# Altium footprint library IC_SOP.PcbLib: 36 footprints (part 1 of 4)
Each footprint in its own frame and in the unit in brackets; x right, y up, seen from the top. Pads: shape width x height; smd on the part's side, far side on the other; paste and mask are expansions set on the pad; w line width, h text height; cw(c..) or ccw(c..) is an arc to the next point about the centre after c.
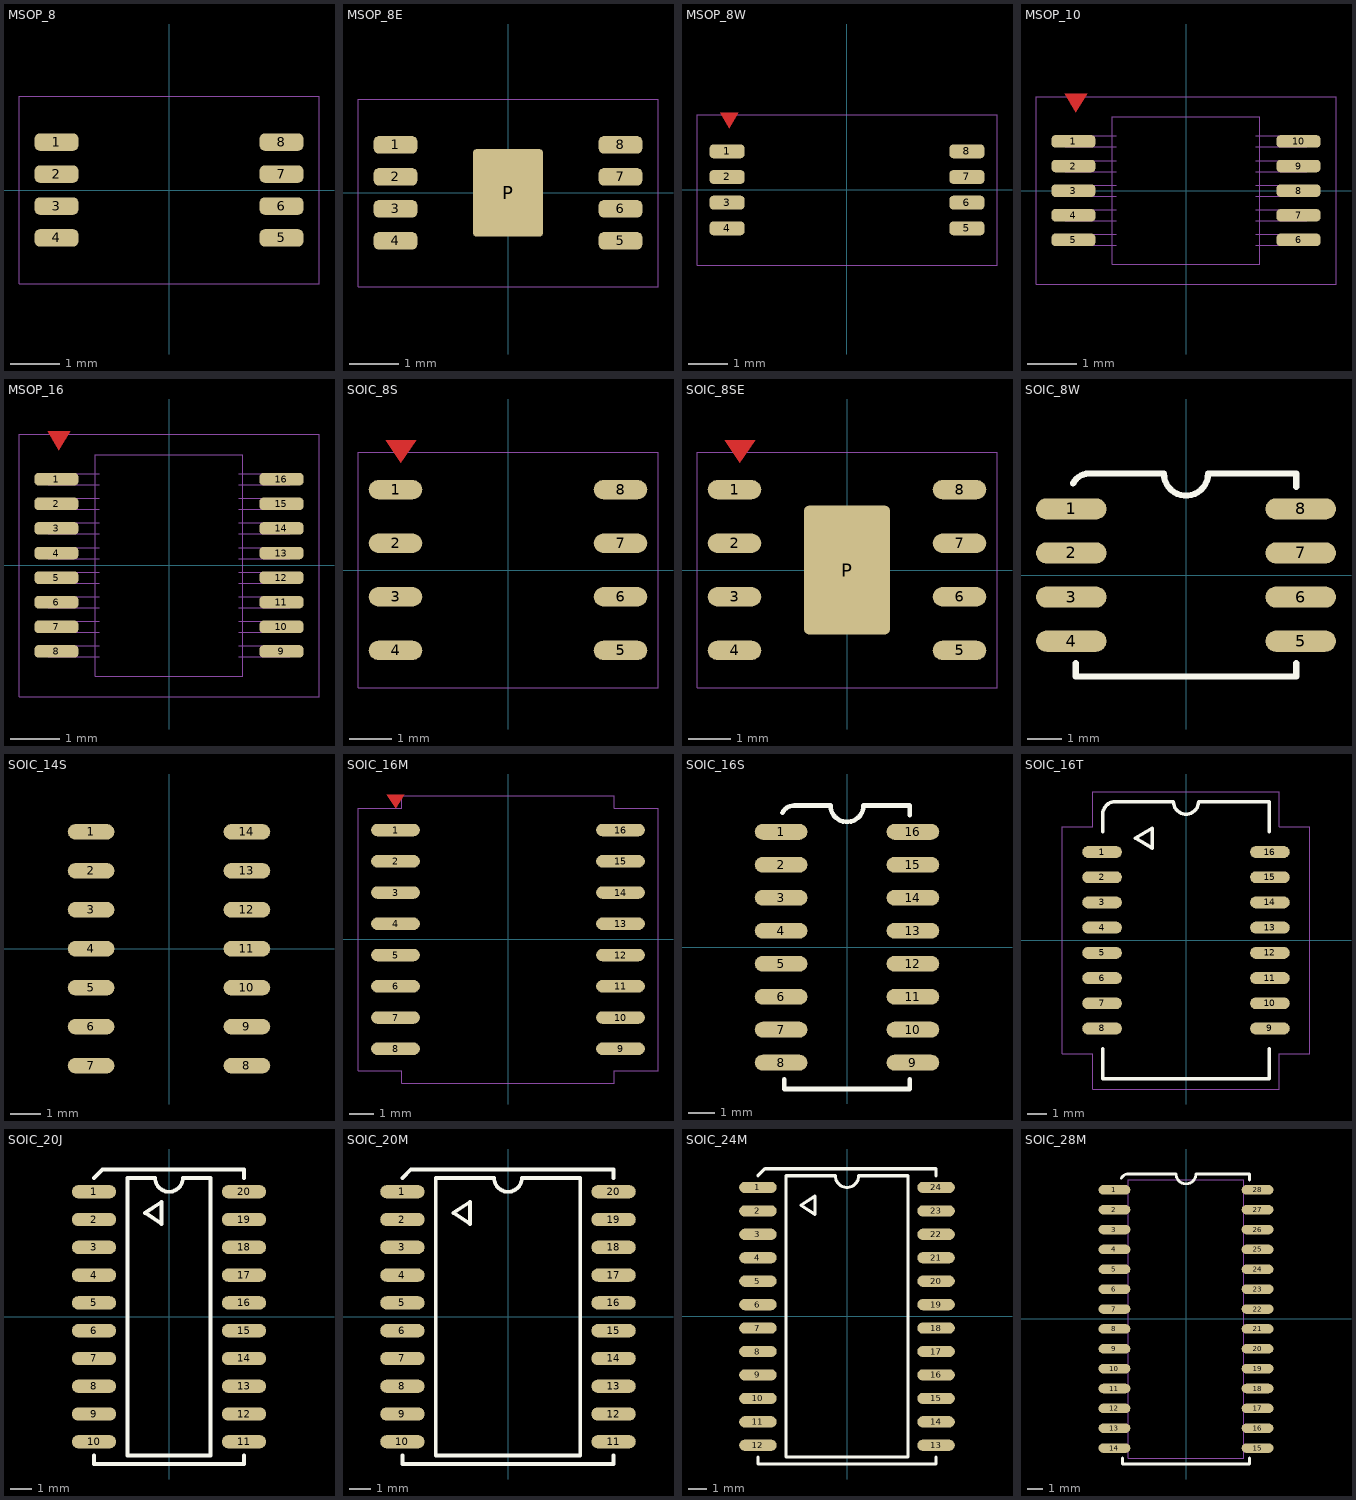
[diagram p0: the footprints below, top view; thin cyan lines are the x and y axes]

## MSOP_8 [mil]
pads (8):
  rrect60% 35x14 smd mask+2: 1(-90,38.39) 2(-90,12.8) 3(-90,-12.8) 4(-90,-38.39) 5(90,-38.39) 6(90,-12.8) 7(90,12.8) 8(90,38.39)
Top Solder:
  region: -88,61.61 -79,76.61 -97,76.61
Top Courtyard:
  lines w1: -120,-75 120,-75 120,75 -120,75 -120,-75
3D body "MSOP-8.step": height 45.28, standoff 0, extent -96.45,-59.05 96.46,59.06

## MSOP_8E [mil]
pads (9):
  rrect60% 35x14 smd mask+2: 1(-90,38.39) 2(-90,12.8) 3(-90,-12.8) 4(-90,-38.39) 5(90,-38.39) 6(90,-12.8) 7(90,12.8) 8(90,38.39)
  rrect10% 56x70 smd mask+2: P(0,0)
Top Solder:
  region: -85,60 -70.86,81.21 -99.14,81.21
Top Courtyard:
  lines w1: -120,-75 120,-75 120,75 -120,75 -120,-75
3D body "MSOP-8.step": height 45.28, standoff 0, extent -96.45,-59.05 96.46,59.06

## MSOP_8W [mil]
pads (8):
  rrect60% 35x14 smd mask+2: 1(-119.53,38.39) 2(-119.53,12.8) 3(-119.53,-12.8) 4(-119.53,-38.39) 5(119.53,-38.39) 6(119.53,-12.8) 7(119.53,12.8) 8(119.53,38.39)
Top Layer:
  region: -117.53,61.61 -108.53,76.61 -126.53,76.61
Top Courtyard:
  lines w1: -149.53,-75 149.53,-75 149.53,75 -149.53,75 -149.53,-75
3D body "MSOP-8.step": height 45.28, standoff 0, extent -96.46,-59.06 96.46,59.06

## MSOP_10 [mil]
pads (10):
  rrect60% 35x10 smd mask+2: 1(-90.06,39.37) 2(-90.06,19.68) 3(-90.06,0) 4(-90.06,-19.68) 5(-90.06,-39.37) 6(90,-39.37) 7(90,-19.68) 8(90,0) 9(90,19.68) 10(90,39.37)
Top Layer:
  region: -88.06,62.6 -79.06,77.6 -97.06,77.6
Top Courtyard:
  lines w1: -120,-75 -120,75 120,75 120,-75 -120,-75
Top Component Outline:
  lines w1: -80.06,-43.77 -80.06,-34.97 ; -80.06,-24.08 -80.06,-15.29 ; -80.06,-4.4 -80.06,4.4 ; -80.06,15.29 -80.06,24.08 ; -80.06,34.97 -80.06,43.77 ; -74.86,-43.77 -74.86,-34.97 ; -74.86,-24.08 -74.86,-15.29 ; -74.86,-4.4 -74.86,4.4 ; -74.86,15.29 -74.86,24.08 ; -74.86,34.97 -74.86,43.77 ; -55.66,-43.77 -96.51,-43.77 -96.51,-34.97 -55.66,-34.97 ; -55.66,-24.08 -96.51,-24.08 -96.51,-15.29 -55.66,-15.29 ; -55.66,-4.4 -96.51,-4.4 -96.51,4.4 -55.66,4.4 ; -55.66,15.29 -96.51,15.29 -96.51,24.08 -55.66,24.08 ; -55.66,34.97 -96.51,34.97 -96.51,43.77 -55.66,43.77 ; 55.6,-43.77 96.46,-43.77 96.46,-34.97 55.6,-34.97 ; 55.6,-24.08 96.46,-24.08 96.46,-15.29 55.6,-15.29 ; 55.6,-4.4 96.46,-4.4 96.46,4.4 55.6,4.4 ; 55.6,15.29 96.46,15.29 96.46,24.08 55.6,24.08 ; 55.6,34.97 96.46,34.97 96.46,43.77 55.6,43.77 ; 74.8,-43.77 74.8,-34.97 ; 74.8,-24.08 74.8,-15.29 ; 74.8,-4.4 74.8,4.4 ; 74.8,15.29 74.8,24.08 ; 74.8,34.97 74.8,43.77 ; 80,-43.77 80,-34.97 ; 80,-24.08 80,-15.29 ; 80,-4.4 80,4.4 ; 80,15.29 80,24.08 ; 80,34.97 80,43.77 ; -59.06,-59.06 -59.06,59.06 59.06,59.06 59.06,-59.06 -59.06,-59.06
3D body: height 25.39, standoff 0, extent -80.06,-4.4 -74.86,4.4
3D body: height 5.71, standoff 0, extent -96.51,-4.4 -74.86,4.4
3D body: height 25.39, standoff 19.68, extent -80.06,-4.4 -55.66,4.4
3D body: height 25.39, standoff 0, extent -80.06,-43.77 -74.86,-34.97
3D body: height 5.71, standoff 0, extent -96.51,-43.77 -74.86,-34.97
3D body: height 25.39, standoff 19.68, extent -80.06,-43.77 -55.66,-34.97
3D body: height 25.39, standoff 19.68, extent -80.06,34.97 -55.66,43.77
3D body: height 5.71, standoff 0, extent -96.51,34.97 -74.86,43.77
3D body: height 25.39, standoff 0, extent -80.06,34.97 -74.86,43.77
3D body: height 25.39, standoff 0, extent -80.06,15.29 -74.86,24.08
3D body: height 5.71, standoff 0, extent -96.51,15.29 -74.86,24.08
3D body: height 25.39, standoff 19.68, extent -80.06,15.29 -55.66,24.08
3D body: height 25.39, standoff 19.68, extent 55.6,-24.08 80,-15.29
3D body: height 5.71, standoff 0, extent 74.8,-24.08 96.46,-15.29
3D body: height 25.39, standoff 0, extent 74.8,-24.08 80,-15.29
3D body: height 25.39, standoff 0, extent 74.8,-43.77 80,-34.97
3D body: height 5.71, standoff 0, extent 74.8,-43.77 96.46,-34.97
3D body: height 25.39, standoff 19.68, extent 55.6,-43.77 80,-34.97
3D body: height 25.39, standoff 19.68, extent 55.6,34.97 80,43.77
3D body: height 5.71, standoff 0, extent 74.8,34.97 96.46,43.77
3D body: height 25.39, standoff 19.68, extent -80.06,-24.08 -55.66,-15.29
3D body: height 5.71, standoff 0, extent -96.51,-24.08 -74.86,-15.29
3D body: height 25.39, standoff 0, extent -80.06,-24.08 -74.86,-15.29
3D body: height 25.39, standoff 0, extent 74.8,34.97 80,43.77
3D body: height 25.39, standoff 19.68, extent 55.6,-4.4 80,4.4
3D body: height 5.71, standoff 0, extent 74.8,-4.4 96.46,4.4
3D body: height 25.39, standoff 0, extent 74.8,-4.4 80,4.4
3D body: height 25.39, standoff 0, extent 74.8,15.29 80,24.08
3D body: height 40, standoff 5, extent -59.06,-59.06 59.06,59.06
3D body: height 5.71, standoff 0, extent 74.8,15.29 96.46,24.08
3D body: height 25.39, standoff 19.68, extent 55.6,15.29 80,24.08

## MSOP_16 [mil]
pads (16):
  rrect60% 35x10 smd mask+2: 1(-90.06,68.9) 2(-90.06,49.21) 3(-90.06,29.53) 4(-90.06,9.84) 5(-90.06,-9.84) 6(-90.06,-29.53) 7(-90.06,-49.21) 8(-90.06,-68.9) 9(90,-68.9) 10(90,-49.21) 11(90,-29.53) 12(90,-9.84) 13(90,9.84) 14(90,29.53) 15(90,49.21) 16(90,68.9)
Top Layer:
  region: -88.06,92.13 -79.06,107.13 -97.06,107.13
Top Courtyard:
  lines w1: -120,-105 120,-105 120,105 -120,105 -120,-105
Top Component Outline:
  lines w1: -80.06,-73.3 -80.06,-64.5 ; -80.06,-53.61 -80.06,-44.81 ; -80.06,-33.93 -80.06,-25.13 ; -80.06,-14.24 -80.06,-5.44 ; -80.06,5.44 -80.06,14.24 ; -80.06,25.13 -80.06,33.93 ; -80.06,44.81 -80.06,53.61 ; -80.06,64.5 -80.06,73.3 ; -74.86,-73.3 -74.86,-64.5 ; -74.86,-53.61 -74.86,-44.81 ; -74.86,-33.93 -74.86,-25.13 ; -74.86,-14.24 -74.86,-5.44 ; -74.86,5.44 -74.86,14.24 ; -74.86,25.13 -74.86,33.93 ; -74.86,44.81 -74.86,53.61 ; -74.86,64.5 -74.86,73.3 ; -55.66,-73.3 -96.51,-73.3 -96.51,-64.5 -55.66,-64.5 ; -55.66,-53.61 -96.51,-53.61 -96.51,-44.81 -55.66,-44.81 ; -55.66,-33.93 -96.51,-33.93 -96.51,-25.13 -55.66,-25.13 ; -55.66,-14.24 -96.51,-14.24 -96.51,-5.44 -55.66,-5.44 ; -55.66,5.44 -96.51,5.44 -96.51,14.24 -55.66,14.24 ; -55.66,25.13 -96.51,25.13 -96.51,33.93 -55.66,33.93 ; -55.66,44.81 -96.51,44.81 -96.51,53.61 -55.66,53.61 ; -55.66,64.5 -96.51,64.5 -96.51,73.3 -55.66,73.3 ; 55.6,-73.3 96.46,-73.3 96.46,-64.5 55.6,-64.5 ; 55.6,-53.61 96.46,-53.61 96.46,-44.81 55.6,-44.81 ; 55.6,-33.93 96.46,-33.93 96.46,-25.13 55.6,-25.13 ; 55.6,-14.24 96.46,-14.24 96.46,-5.44 55.6,-5.44 ; 55.6,5.44 96.46,5.44 96.46,14.24 55.6,14.24 ; 55.6,25.13 96.46,25.13 96.46,33.93 55.6,33.93 ; 55.6,44.81 96.46,44.81 96.46,53.61 55.6,53.61 ; 55.6,64.5 96.46,64.5 96.46,73.3 55.6,73.3 ; 74.8,-73.3 74.8,-64.5 ; 74.8,-53.61 74.8,-44.81 ; 74.8,-33.93 74.8,-25.13 ; 74.8,-14.24 74.8,-5.44 ; 74.8,5.44 74.8,14.24 ; 74.8,25.13 74.8,33.93 ; 74.8,44.81 74.8,53.61 ; 74.8,64.5 74.8,73.3 ; 80,-73.3 80,-64.5 ; 80,-53.61 80,-44.81 ; 80,-33.93 80,-25.13 ; 80,-14.24 80,-5.44 ; 80,5.44 80,14.24 ; 80,25.13 80,33.93 ; 80,44.81 80,53.61 ; 80,64.5 80,73.3 ; -59.06,-88.58 59.05,-88.58 59.05,88.58 -59.06,88.58 -59.06,-88.58
3D body: height 25.39, standoff 19.68, extent -80.06,-53.61 -55.66,-44.81
3D body: height 5.71, standoff 0, extent -96.51,-53.61 -74.86,-44.81
3D body: height 25.39, standoff 0, extent -80.06,-53.61 -74.86,-44.81
3D body: height 25.39, standoff 0, extent -80.06,-33.93 -74.86,-25.13
3D body: height 5.71, standoff 0, extent -96.51,-33.93 -74.86,-25.13
3D body: height 25.39, standoff 19.68, extent -80.06,-33.93 -55.66,-25.13
3D body: height 25.39, standoff 0, extent -80.06,-73.3 -74.86,-64.5
3D body: height 5.71, standoff 0, extent -96.51,-73.3 -74.86,-64.5
3D body: height 25.39, standoff 19.68, extent -80.06,-73.3 -55.66,-64.5
3D body: height 25.39, standoff 19.68, extent 55.6,-53.61 80,-44.81
3D body: height 5.71, standoff 0, extent 74.8,-53.61 96.46,-44.81
3D body: height 25.39, standoff 0, extent 74.8,-53.61 80,-44.81
3D body: height 25.39, standoff 0, extent 74.8,-73.3 80,-64.5
3D body: height 5.71, standoff 0, extent 74.8,-73.3 96.46,-64.5
3D body: height 25.39, standoff 19.68, extent 55.6,-73.3 80,-64.5
3D body: height 25.39, standoff 19.68, extent 55.6,-33.93 80,-25.13
3D body: height 5.71, standoff 0, extent 74.8,-33.93 96.46,-25.13
3D body: height 25.39, standoff 0, extent 74.8,-33.93 80,-25.13
3D body: height 25.39, standoff 19.68, extent 55.6,44.81 80,53.61
3D body: height 5.71, standoff 0, extent 74.8,44.81 96.46,53.61
3D body: height 40, standoff 5, extent -59.06,-88.58 59.05,88.58
3D body: height 25.39, standoff 0, extent 74.8,44.81 80,53.61
3D body: height 25.39, standoff 0, extent 74.8,25.13 80,33.93
3D body: height 5.71, standoff 0, extent 74.8,25.13 96.46,33.93
3D body: height 25.39, standoff 19.68, extent 55.6,25.13 80,33.93
3D body: height 25.39, standoff 0, extent 74.8,64.5 80,73.3
3D body: height 5.71, standoff 0, extent 74.8,64.5 96.46,73.3
3D body: height 25.39, standoff 19.68, extent 55.6,64.5 80,73.3
3D body: height 25.39, standoff 19.68, extent 55.6,-14.24 80,-5.44
3D body: height 5.71, standoff 0, extent 74.8,-14.24 96.46,-5.44
3D body: height 25.39, standoff 0, extent 74.8,-14.24 80,-5.44
3D body: height 25.39, standoff 0, extent 74.8,5.44 80,14.24
3D body: height 5.71, standoff 0, extent 74.8,5.44 96.46,14.24
3D body: height 25.39, standoff 19.68, extent 55.6,5.44 80,14.24
3D body: height 25.39, standoff 19.68, extent -80.06,44.81 -55.66,53.61
3D body: height 5.71, standoff 0, extent -96.51,44.81 -74.86,53.61
3D body: height 25.39, standoff 0, extent -80.06,44.81 -74.86,53.61
3D body: height 25.39, standoff 0, extent -80.06,64.5 -74.86,73.3
3D body: height 5.71, standoff 0, extent -96.51,64.5 -74.86,73.3
3D body: height 25.39, standoff 19.68, extent -80.06,64.5 -55.66,73.3
3D body: height 25.39, standoff 19.68, extent -80.06,-14.24 -55.66,-5.44
3D body: height 5.71, standoff 0, extent -96.51,-14.24 -74.86,-5.44
3D body: height 25.39, standoff 0, extent -80.06,-14.24 -74.86,-5.44
3D body: height 25.39, standoff 19.68, extent -80.06,25.13 -55.66,33.93
3D body: height 5.71, standoff 0, extent -96.51,25.13 -74.86,33.93
3D body: height 25.39, standoff 0, extent -80.06,25.13 -74.86,33.93
3D body: height 25.39, standoff 0, extent -80.06,5.44 -74.86,14.24
3D body: height 5.71, standoff 0, extent -96.51,5.44 -74.86,14.24
3D body: height 25.39, standoff 19.68, extent -80.06,5.44 -55.66,14.24

## SOIC_8S [mil]
pads (8):
  oval 50x18 smd mask+2: 1(-105,75) 2(-105,25) 3(-105,-25) 4(-105,-75) 5(105,-75) 6(105,-25) 7(105,25) 8(105,75)
Top Layer:
  region: -100,100 -85.86,121.21 -114.14,121.21
Top Courtyard:
  lines w1: -140,-110 140,-110 140,110 -140,110 -140,-110
3D body "SOIC-8.STEP": height 68.9, standoff 0, extent -118.11,-96.46 118.11,96.46

## SOIC_8SE [mil]
pads (9):
  oval 50x18 smd mask+2: 1(-105,75) 2(-105,25) 3(-105,-25) 4(-105,-75) 5(105,-75) 6(105,-25) 7(105,25) 8(105,75)
  rrect10% 80x120 smd mask+2: P(0,0)
Top Layer:
  region: -100,100 -85.86,121.21 -114.14,121.21
Top Courtyard:
  lines w1: -140,-110 -140,110 140,110 140,-110 -140,-110
3D body "SOIC-8.STEP": height 68.9, standoff 0, extent -118.11,-96.46 118.11,96.46

## SOIC_8W [mil]
pads (8):
  oval 80x24 smd paste-2: 1(-130,75) 2(-130,25) 3(-130,-25) 4(-130,-75) 5(130,-75) 6(130,-25) 7(130,25) 8(130,75)
Top Overlay:
  lines w7: -127.89,103.94 cw(c-110,95) -110,115 -25,115 ccw(c0,115) 25,115 125,115 125,100 ; -125,-100 -125,-115 125,-115 125,-100
3D body: height 7, standoff 0, extent 133,-85 155,-65
3D body: height 25, standoff 0, extent 125,-85 133,-65
3D body: height 25, standoff 18, extent 105,-85 125,-65
3D body: height 25, standoff 18, extent 105,-35 125,-15
3D body: height 25, standoff 0, extent 125,-35 133,-15
3D body: height 7, standoff 0, extent 133,-35 155,-15
3D body: height 25, standoff 18, extent 105,15 125,35
3D body: height 25, standoff 0, extent 125,15 133,35
3D body: height 7, standoff 0, extent 133,15 155,35
3D body: height 25, standoff 18, extent 105,65 125,85
3D body: height 25, standoff 0, extent 125,65 133,85
3D body: height 7, standoff 0, extent 133,65 155,85
3D body: height 7, standoff 0, extent -155,-85 -133,-65
3D body: height 25, standoff 0, extent -133,-85 -125,-65
3D body: height 25, standoff 18, extent -125,-85 -105,-65
3D body: height 7, standoff 0, extent -155,-35 -133,-15
3D body: height 25, standoff 0, extent -133,-35 -125,-15
3D body: height 25, standoff 18, extent -125,-35 -105,-15
3D body: height 7, standoff 0, extent -155,15 -133,35
3D body: height 25, standoff 0, extent -133,15 -125,35
3D body: height 25, standoff 18, extent -125,15 -105,35
3D body: height 25, standoff 18, extent -125,65 -105,85
3D body: height 25, standoff 0, extent -133,65 -125,85
3D body: height 61, standoff 0, extent -93,57 -67,83
3D body: height 60, standoff 5, extent -110,-100 110,100
3D body: height 7, standoff 0, extent -155,65 -133,85

## SOIC_14S [mil]
pads (14):
  oval 60x20 smd: 1(-100,150) 2(-100,100) 3(-100,50) 4(-100,0) 5(-100,-50) 6(-100,-100) 7(-100,-150) 8(100,-150) 9(100,-100) 10(100,-50) 11(100,0) 12(100,50) 13(100,100) 14(100,150)
Top Solder:
  region: -100,180 -85,205 -115,205
3D body: height 25, standoff 18, extent -90,-60 -70,-40
3D body: height 25, standoff 0, extent -98,-60 -90,-40
3D body: height 7, standoff 0, extent -120,-60 -98,-40
3D body: height 25, standoff 18, extent -90,-110 -70,-90
3D body: height 25, standoff 0, extent -98,-110 -90,-90
3D body: height 7, standoff 0, extent -120,-110 -98,-90
3D body: height 25, standoff 18, extent -90,-160 -70,-140
3D body: height 25, standoff 0, extent -98,-160 -90,-140
3D body: height 7, standoff 0, extent -120,-160 -98,-140
3D body: height 7, standoff 0, extent 98,-60 120,-40
3D body: height 25, standoff 0, extent 90,-60 98,-40
3D body: height 25, standoff 18, extent 70,-60 90,-40
3D body: height 7, standoff 0, extent 98,-110 120,-90
3D body: height 25, standoff 0, extent 90,-110 98,-90
3D body: height 25, standoff 18, extent 70,-110 90,-90
3D body: height 25, standoff 18, extent 70,-160 90,-140
3D body: height 25, standoff 0, extent 90,-160 98,-140
3D body: height 7, standoff 0, extent 98,-160 120,-140
3D body: height 7, standoff 0, extent -120,140 -98,160
3D body: height 60, standoff 5, extent -80,-175 80,175
3D body: height 61, standoff 0, extent -63,132 -37,158
3D body: height 25, standoff 0, extent -98,140 -90,160
3D body: height 25, standoff 18, extent -90,140 -70,160
3D body: height 25, standoff 18, extent -90,90 -70,110
3D body: height 25, standoff 0, extent -98,90 -90,110
3D body: height 7, standoff 0, extent -120,90 -98,110
3D body: height 25, standoff 18, extent -90,40 -70,60
3D body: height 25, standoff 0, extent -98,40 -90,60
3D body: height 7, standoff 0, extent -120,40 -98,60
3D body: height 25, standoff 18, extent -90,-10 -70,10
3D body: height 25, standoff 0, extent -98,-10 -90,10
3D body: height 7, standoff 0, extent -120,-10 -98,10
3D body: height 7, standoff 0, extent 98,140 120,160
3D body: height 25, standoff 0, extent 90,140 98,160
3D body: height 25, standoff 18, extent 70,140 90,160
3D body: height 7, standoff 0, extent 98,90 120,110
3D body: height 25, standoff 0, extent 90,90 98,110
3D body: height 25, standoff 18, extent 70,90 90,110
3D body: height 7, standoff 0, extent 98,40 120,60
3D body: height 25, standoff 0, extent 90,40 98,60
3D body: height 25, standoff 18, extent 70,40 90,60
3D body: height 25, standoff 18, extent 70,-10 90,10
3D body: height 25, standoff 0, extent 90,-10 98,10
3D body: height 7, standoff 0, extent 98,-10 120,10

## SOIC_16M [mil]
pads (16):
  oval 78x20 smd: 1(-180,175) 2(-180,125) 3(-180,75) 4(-180,25) 5(-180,-25) 6(-180,-75) 7(-180,-125) 8(-180,-175) 9(180,-175) 10(180,-125) 11(180,-75) 12(180,-25) 13(180,25) 14(180,75) 15(180,125) 16(180,175)
Top Layer:
  region: -180,210 -165.86,231.21 -194.14,231.21
Top Courtyard:
  lines w1: -240,-210 -240,210 -170,210 -170,230 170,230 170,210 240,210 240,-210 170,-210 170,-230 -170,-230 -170,-210 -240,-210
3D body: height 65, standoff 58, extent -170.26,165 -145.26,185
3D body: height 65, standoff 0, extent -178.26,165 -170.26,185
3D body: height 7, standoff 0, extent -202.76,165 -178.26,185
3D body: height 65, standoff 58, extent -170.26,115 -145.26,135
3D body: height 65, standoff 0, extent -178.26,115 -170.26,135
3D body: height 7, standoff 0, extent -202.76,115 -178.26,135
3D body: height 65, standoff 58, extent -170.26,65 -145.26,85
3D body: height 65, standoff 0, extent -178.26,65 -170.26,85
3D body: height 7, standoff 0, extent -202.76,65 -178.26,85
3D body: height 65, standoff 58, extent -170.26,15 -145.26,35
3D body: height 65, standoff 0, extent -178.26,15 -170.26,35
3D body: height 7, standoff 0, extent -202.76,15 -178.26,35
3D body: height 65, standoff 58, extent -170.26,-35 -145.26,-15
3D body: height 65, standoff 0, extent -178.26,-35 -170.26,-15
3D body: height 7, standoff 0, extent -202.76,-35 -178.26,-15
3D body: height 65, standoff 58, extent -170.26,-85 -145.26,-65
3D body: height 65, standoff 0, extent -178.26,-85 -170.26,-65
3D body: height 7, standoff 0, extent -202.76,-85 -178.26,-65
3D body: height 65, standoff 58, extent -170.26,-135 -145.26,-115
3D body: height 65, standoff 0, extent -178.26,-135 -170.26,-115
3D body: height 7, standoff 0, extent -202.76,-135 -178.26,-115
3D body: height 65, standoff 58, extent -170.26,-185 -145.26,-165
3D body: height 65, standoff 0, extent -178.26,-185 -170.26,-165
3D body: height 7, standoff 0, extent -202.76,-185 -178.26,-165
3D body: height 65, standoff 58, extent 145.26,-185 170.26,-165
3D body: height 65, standoff 0, extent 170.26,-185 178.26,-165
3D body: height 7, standoff 0, extent 178.26,-185 202.76,-165
3D body: height 65, standoff 58, extent 145.26,-135 170.26,-115
3D body: height 65, standoff 0, extent 170.26,-135 178.26,-115
3D body: height 7, standoff 0, extent 178.26,-135 202.76,-115
3D body: height 65, standoff 58, extent 145.26,-85 170.26,-65
3D body: height 65, standoff 0, extent 170.26,-85 178.26,-65
3D body: height 7, standoff 0, extent 178.26,-85 202.76,-65
3D body: height 65, standoff 58, extent 145.26,-35 170.26,-15
3D body: height 65, standoff 0, extent 170.26,-35 178.26,-15
3D body: height 7, standoff 0, extent 178.26,-35 202.76,-15
3D body: height 65, standoff 58, extent 145.26,15 170.26,35
3D body: height 65, standoff 0, extent 170.26,15 178.26,35
3D body: height 7, standoff 0, extent 178.26,15 202.76,35
3D body: height 65, standoff 58, extent 145.26,65 170.26,85
3D body: height 65, standoff 0, extent 170.26,65 178.26,85
3D body: height 7, standoff 0, extent 178.26,65 202.76,85
3D body: height 65, standoff 58, extent 145.26,115 170.26,135
3D body: height 65, standoff 0, extent 170.26,115 178.26,135
3D body: height 7, standoff 0, extent 178.26,115 202.76,135
3D body: height 65, standoff 58, extent 145.26,165 170.26,185
3D body: height 65, standoff 0, extent 170.26,165 178.26,185
3D body: height 7, standoff 0, extent 178.26,165 202.76,185
3D body: height 98.5, standoff 98, extent -118,147 -92,173
3D body: height 98.43, standoff 5, extent -147.64,-202.76 147.64,202.76

## SOIC_16S [mil]
pads (16):
  oval 80x24 smd: 1(-100,175) 2(-100,125) 3(-100,75) 4(-100,25) 5(-100,-25) 6(-100,-75) 7(-100,-125) 8(-100,-175) 9(100,-175) 10(100,-125) 11(100,-75) 12(100,-25) 13(100,25) 14(100,75) 15(100,125) 16(100,175)
Top Overlay:
  lines w7: -97.89,203.94 cw(c-80,195) -80,215 -25,215 ccw(c0,215) 25,215 95,215 95,200 ; -95,-200 -95,-215 95,-215 95,-200
3D body: height 61, standoff 0, extent -63,157 -37,183
3D body: height 60, standoff 5, extent -80,-200 80,200
3D body: height 25, standoff 18, extent -95,-185 -75,-165
3D body: height 25, standoff 0, extent -103,-185 -95,-165
3D body: height 7, standoff 0, extent -125,-185 -103,-165
3D body: height 25, standoff 18, extent -95,-35 -75,-15
3D body: height 25, standoff 0, extent -103,-35 -95,-15
3D body: height 7, standoff 0, extent -125,-35 -103,-15
3D body: height 25, standoff 18, extent -95,-85 -75,-65
3D body: height 25, standoff 0, extent -103,-85 -95,-65
3D body: height 7, standoff 0, extent -125,-85 -103,-65
3D body: height 7, standoff 0, extent -125,165 -103,185
3D body: height 25, standoff 0, extent -103,165 -95,185
3D body: height 25, standoff 18, extent -95,165 -75,185
3D body: height 25, standoff 18, extent -95,115 -75,135
3D body: height 25, standoff 0, extent -103,115 -95,135
3D body: height 7, standoff 0, extent -125,115 -103,135
3D body: height 25, standoff 18, extent -95,65 -75,85
3D body: height 25, standoff 0, extent -103,65 -95,85
3D body: height 7, standoff 0, extent -125,65 -103,85
3D body: height 25, standoff 18, extent -95,15 -75,35
3D body: height 25, standoff 0, extent -103,15 -95,35
3D body: height 7, standoff 0, extent -125,15 -103,35
3D body: height 7, standoff 0, extent -125,-135 -103,-115
3D body: height 25, standoff 0, extent -103,-135 -95,-115
3D body: height 25, standoff 18, extent -95,-135 -75,-115
3D body: height 25, standoff 18, extent 75,115 95,135
3D body: height 25, standoff 0, extent 95,115 103,135
3D body: height 7, standoff 0, extent 103,115 125,135
3D body: height 7, standoff 0, extent 103,-35 125,-15
3D body: height 25, standoff 0, extent 95,-35 103,-15
3D body: height 25, standoff 18, extent 75,-35 95,-15
3D body: height 7, standoff 0, extent 103,-85 125,-65
3D body: height 25, standoff 0, extent 95,-85 103,-65
3D body: height 25, standoff 18, extent 75,-85 95,-65
3D body: height 7, standoff 0, extent 103,-135 125,-115
3D body: height 25, standoff 0, extent 95,-135 103,-115
3D body: height 25, standoff 18, extent 75,-135 95,-115
3D body: height 25, standoff 18, extent 75,-185 95,-165
3D body: height 25, standoff 0, extent 95,-185 103,-165
3D body: height 7, standoff 0, extent 103,-185 125,-165
3D body: height 7, standoff 0, extent 103,65 125,85
3D body: height 25, standoff 0, extent 95,65 103,85
3D body: height 25, standoff 18, extent 75,65 95,85
3D body: height 7, standoff 0, extent 103,15 125,35
3D body: height 25, standoff 0, extent 95,15 103,35
3D body: height 25, standoff 18, extent 75,15 95,35
3D body: height 7, standoff 0, extent 103,165 125,185
3D body: height 25, standoff 0, extent 95,165 103,185
3D body: height 25, standoff 18, extent 75,165 95,185

## SOIC_16T [mm]
pads (16):
  oval 2x0.6 smd: 1(-4.227,4.445) 2(-4.227,3.175) 3(-4.227,1.905) 4(-4.227,0.635) 5(-4.227,-0.635) 6(-4.227,-1.905) 7(-4.227,-3.175) 8(-4.227,-4.445) 9(4.227,-4.445) 10(4.227,-3.175) 11(4.227,-1.905) 12(4.227,-0.635) 13(4.227,0.635) 14(4.227,1.905) 15(4.227,3.175) 16(4.227,4.445)
Top Overlay:
  lines w0.178: -4.191,-5.461 -4.191,-6.985 4.191,-6.985 4.191,-5.461 ; -4.191,5.461 -4.191,6.35 cw(c-3.556,6.35) -3.556,6.985 -0.635,6.985 ccw(c0,6.985) 0.635,6.985 4.191,6.985 4.191,5.461 ; -2.551,5.145 -1.689,5.653 -1.689,4.637 -2.551,5.145
Top Courtyard:
  lines w0.025: -6.223,-5.715 -4.699,-5.715 -4.699,-7.493 4.699,-7.493 4.699,-5.715 6.223,-5.715 6.223,5.715 4.699,5.715 4.699,7.493 -4.699,7.493 -4.699,5.715 -6.223,5.715 -6.223,-5.715
3D body: height 1.19, standoff 1.02, extent 3.516,-4.699 4.024,-4.191
3D body: height 1.19, standoff 0, extent 4.024,-4.699 4.227,-4.191
3D body: height 0.18, standoff 0, extent 4.227,-4.699 4.786,-4.191
3D body: height 1.19, standoff 1.02, extent 3.516,-3.429 4.024,-2.921
3D body: height 1.19, standoff 0, extent 4.024,-3.429 4.227,-2.921
3D body: height 0.18, standoff 0, extent 4.227,-3.429 4.786,-2.921
3D body: height 1.19, standoff 1.02, extent 3.516,-2.159 4.024,-1.651
3D body: height 1.19, standoff 0, extent 4.024,-2.159 4.227,-1.651
3D body: height 0.18, standoff 0, extent 4.227,-2.159 4.786,-1.651
3D body: height 1.19, standoff 1.02, extent 3.516,-0.889 4.024,-0.381
3D body: height 1.19, standoff 0, extent 4.024,-0.889 4.227,-0.381
3D body: height 0.18, standoff 0, extent 4.227,-0.889 4.786,-0.381
3D body: height 1.19, standoff 1.02, extent 3.516,0.381 4.024,0.889
3D body: height 1.19, standoff 0, extent 4.024,0.381 4.227,0.889
3D body: height 0.18, standoff 0, extent 4.227,0.381 4.786,0.889
3D body: height 1.19, standoff 1.02, extent 3.516,1.651 4.024,2.159
3D body: height 1.19, standoff 0, extent 4.024,1.651 4.227,2.159
3D body: height 0.18, standoff 0, extent 4.227,1.651 4.786,2.159
3D body: height 1.19, standoff 1.02, extent 3.516,2.921 4.024,3.429
3D body: height 1.19, standoff 0, extent 4.024,2.921 4.227,3.429
3D body: height 0.18, standoff 0, extent 4.227,2.921 4.786,3.429
3D body: height 0.18, standoff 0, extent -4.786,-4.699 -4.227,-4.191
3D body: height 1.19, standoff 0, extent -4.227,-4.699 -4.024,-4.191
3D body: height 1.19, standoff 1.02, extent -4.024,-4.699 -3.516,-4.191
3D body: height 0.18, standoff 0, extent -4.786,-3.429 -4.227,-2.921
3D body: height 1.19, standoff 0, extent -4.227,-3.429 -4.024,-2.921
3D body: height 1.19, standoff 1.02, extent -4.024,-3.429 -3.516,-2.921
3D body: height 0.18, standoff 0, extent -4.786,-2.159 -4.227,-1.651
3D body: height 1.19, standoff 0, extent -4.227,-2.159 -4.024,-1.651
3D body: height 1.19, standoff 1.02, extent -4.024,-2.159 -3.516,-1.651
3D body: height 0.18, standoff 0, extent -4.786,-0.889 -4.227,-0.381
3D body: height 1.19, standoff 0, extent -4.227,-0.889 -4.024,-0.381
3D body: height 1.19, standoff 1.02, extent -4.024,-0.889 -3.516,-0.381
3D body: height 0.18, standoff 0, extent -4.786,0.381 -4.227,0.889
3D body: height 1.19, standoff 0, extent -4.227,0.381 -4.024,0.889
3D body: height 1.19, standoff 1.02, extent -4.024,0.381 -3.516,0.889
3D body: height 0.18, standoff 0, extent -4.786,1.651 -4.227,2.159
3D body: height 1.19, standoff 0, extent -4.227,1.651 -4.024,2.159
3D body: height 1.19, standoff 1.02, extent -4.024,1.651 -3.516,2.159
3D body: height 0.18, standoff 0, extent -4.786,2.921 -4.227,3.429
3D body: height 1.19, standoff 0, extent -4.227,2.921 -4.024,3.429
3D body: height 1.19, standoff 1.02, extent -4.024,2.921 -3.516,3.429
3D body: height 0.18, standoff 0, extent 4.227,4.191 4.786,4.699
3D body: height 1.19, standoff 0, extent 4.024,4.191 4.227,4.699
3D body: height 1.19, standoff 1.02, extent 3.516,4.191 4.024,4.699
3D body: height 1.19, standoff 1.02, extent -4.024,4.191 -3.516,4.699
3D body: height 1.19, standoff 0, extent -4.227,4.191 -4.024,4.699
3D body: height 0.18, standoff 0, extent -4.786,4.191 -4.227,4.699
3D body: height 6.02, standoff 5.84, extent -2.87,5.004 -2.21,5.664
3D body: height 5.99, standoff 0.13, extent -3.556,-6.35 3.556,6.35

## SOIC_20J [mil]
pads (20):
  oval 80x24 smd: 1(-135,225) 2(-135,175) 3(-135,125) 4(-135,75) 5(-135,25) 6(-135,-25) 7(-135,-75) 8(-135,-125) 9(-135,-175) 10(-135,-225) 11(135,-225) 12(135,-175) 13(135,-125) 14(135,-75) 15(135,-25) 16(135,25) 17(135,75) 18(135,125) 19(135,175) 20(135,225)
Top Overlay:
  lines w7: -135,-250 -135,-265 135,-265 135,-250 ; -135,250 -120,265 135,265 135,250 ; -75,-250 75,-250 75,250 25,250 cw(c0,250) -25,250 -75,250 -75,-250 ; -43,187 -13.47,167.31 -13.47,206.69 -43,187

## SOIC_20M [mil]
pads (20):
  oval 80x24 smd: 1(-190,225) 2(-190,175) 3(-190,125) 4(-190,75) 5(-190,25) 6(-190,-25) 7(-190,-75) 8(-190,-125) 9(-190,-175) 10(-190,-225) 11(190,-225) 12(190,-175) 13(190,-125) 14(190,-75) 15(190,-25) 16(190,25) 17(190,75) 18(190,125) 19(190,175) 20(190,225)
Top Overlay:
  lines w7: -190,-250 -190,-265 190,-265 190,-250 ; -190,250 -175,265 190,265 190,250 ; -130,-250 130,-250 130,250 25,250 cw(c0,250) -25,250 -130,250 -130,-250 ; -98,187 -68.47,206.69 -68.47,167.31 -98,187

## SOIC_24M [mil]
pads (24):
  oval 80x24 smd: 1(-190,275) 2(-190,225) 3(-190,175) 4(-190,125) 5(-190,75) 6(-190,25) 7(-190,-25) 8(-190,-75) 9(-190,-125) 10(-190,-175) 11(-190,-225) 12(-190,-275) 13(190,-275) 14(190,-225) 15(190,-175) 16(190,-125) 17(190,-75) 18(190,-25) 19(190,25) 20(190,75) 21(190,125) 22(190,175) 23(190,225) 24(190,275)
Top Overlay:
  lines w7: -190,-300 -190,-315 190,-315 190,-300 ; -190,300 -175,315 190,315 190,300 ; -130,-300 130,-300 130,300 25,300 cw(c0,300) -25,300 -130,300 -130,-300 ; -98,237 -68.47,256.69 -68.47,217.31 -98,237

## SOIC_28M [mil]
pads (28):
  oval 80x24 smd: 1(-180,325) 2(-180,275) 3(-180,225) 4(-180,175) 5(-180,125) 6(-180,75) 7(-180,25) 8(-180,-25) 9(-180,-75) 10(-180,-125) 11(-180,-175) 12(-180,-225) 13(-180,-275) 14(-180,-325) 15(180,-325) 16(180,-275) 17(180,-225) 18(180,-175) 19(180,-125) 20(180,-75) 21(180,-25) 22(180,25) 23(180,75) 24(180,125) 25(180,175) 26(180,225) 27(180,275) 28(180,325)
Top Overlay:
  lines w7: -162.89,353.94 cw(c-145,345) -145,365 -25,365 ccw(c0,365) 25,365 160,365 160,350 ; -160,-350 -160,-365 160,-365 160,-350
Top Component Outline:
  lines w1: -145,-350 -145,350 145,350 145,-350 -145,-350
3D body: height 7, standoff 0, extent -200,-335 -175.5,-315
3D body: height 25, standoff 0, extent -175.5,-335 -167.5,-315
3D body: height 25, standoff 18, extent -167.5,-335 -142.5,-315
3D body: height 25, standoff 18, extent -167.5,-285 -142.5,-265
3D body: height 25, standoff 0, extent -175.5,-285 -167.5,-265
3D body: height 7, standoff 0, extent -200,-285 -175.5,-265
3D body: height 25, standoff 18, extent -167.5,-235 -142.5,-215
3D body: height 25, standoff 0, extent -175.5,-235 -167.5,-215
3D body: height 7, standoff 0, extent -200,-235 -175.5,-215
3D body: height 25, standoff 18, extent -167.5,-185 -142.5,-165
3D body: height 25, standoff 0, extent -175.5,-185 -167.5,-165
3D body: height 7, standoff 0, extent -200,-185 -175.5,-165
3D body: height 25, standoff 18, extent -167.5,-135 -142.5,-115
3D body: height 25, standoff 0, extent -175.5,-135 -167.5,-115
3D body: height 7, standoff 0, extent -200,-135 -175.5,-115
3D body: height 25, standoff 18, extent -167.5,-85 -142.5,-65
3D body: height 25, standoff 0, extent -175.5,-85 -167.5,-65
3D body: height 7, standoff 0, extent -200,-85 -175.5,-65
3D body: height 25, standoff 18, extent -167.5,-35 -142.5,-15
3D body: height 25, standoff 0, extent -175.5,-35 -167.5,-15
3D body: height 7, standoff 0, extent -200,-35 -175.5,-15
3D body: height 25, standoff 18, extent -167.5,15 -142.5,35
3D body: height 25, standoff 0, extent -175.5,15 -167.5,35
3D body: height 7, standoff 0, extent -200,15 -175.5,35
3D body: height 25, standoff 18, extent -167.5,65 -142.5,85
3D body: height 25, standoff 0, extent -175.5,65 -167.5,85
3D body: height 7, standoff 0, extent -200,65 -175.5,85
3D body: height 25, standoff 18, extent -167.5,115 -142.5,135
3D body: height 25, standoff 0, extent -175.5,115 -167.5,135
3D body: height 7, standoff 0, extent -200,115 -175.5,135
3D body: height 25, standoff 18, extent -167.5,165 -142.5,185
3D body: height 25, standoff 0, extent -175.5,165 -167.5,185
3D body: height 7, standoff 0, extent -200,165 -175.5,185
3D body: height 25, standoff 18, extent -167.5,215 -142.5,235
3D body: height 25, standoff 0, extent -175.5,215 -167.5,235
3D body: height 7, standoff 0, extent -200,215 -175.5,235
3D body: height 25, standoff 18, extent -167.5,265 -142.5,285
3D body: height 25, standoff 0, extent -175.5,265 -167.5,285
3D body: height 7, standoff 0, extent -200,265 -175.5,285
3D body: height 25, standoff 18, extent -167.5,315 -142.5,335
3D body: height 25, standoff 0, extent -175.5,315 -167.5,335
3D body: height 7, standoff 0, extent -200,315 -175.5,335
3D body: height 7, standoff 0, extent 175.5,-335 200,-315
3D body: height 25, standoff 0, extent 167.5,-335 175.5,-315
3D body: height 25, standoff 18, extent 142.5,-335 167.5,-315
3D body: height 7, standoff 0, extent 175.5,-285 200,-265
3D body: height 25, standoff 0, extent 167.5,-285 175.5,-265
3D body: height 25, standoff 18, extent 142.5,-285 167.5,-265
3D body: height 7, standoff 0, extent 175.5,-235 200,-215
3D body: height 25, standoff 0, extent 167.5,-235 175.5,-215
3D body: height 25, standoff 18, extent 142.5,-235 167.5,-215
3D body: height 7, standoff 0, extent 175.5,-185 200,-165
3D body: height 25, standoff 0, extent 167.5,-185 175.5,-165
3D body: height 25, standoff 18, extent 142.5,-185 167.5,-165
3D body: height 7, standoff 0, extent 175.5,-135 200,-115
3D body: height 25, standoff 0, extent 167.5,-135 175.5,-115
3D body: height 25, standoff 18, extent 142.5,-135 167.5,-115
3D body: height 7, standoff 0, extent 175.5,-85 200,-65
3D body: height 25, standoff 0, extent 167.5,-85 175.5,-65
3D body: height 25, standoff 18, extent 142.5,-85 167.5,-65
3D body: height 7, standoff 0, extent 175.5,-35 200,-15
3D body: height 25, standoff 0, extent 167.5,-35 175.5,-15
3D body: height 25, standoff 18, extent 142.5,-35 167.5,-15
3D body: height 7, standoff 0, extent 175.5,15 200,35
3D body: height 25, standoff 0, extent 167.5,15 175.5,35
3D body: height 25, standoff 18, extent 142.5,15 167.5,35
3D body: height 7, standoff 0, extent 175.5,65 200,85
3D body: height 25, standoff 0, extent 167.5,65 175.5,85
3D body: height 25, standoff 18, extent 142.5,65 167.5,85
3D body: height 7, standoff 0, extent 175.5,115 200,135
3D body: height 25, standoff 0, extent 167.5,115 175.5,135
3D body: height 25, standoff 18, extent 142.5,115 167.5,135
3D body: height 7, standoff 0, extent 175.5,165 200,185
3D body: height 25, standoff 0, extent 167.5,165 175.5,185
3D body: height 25, standoff 18, extent 142.5,165 167.5,185
3D body: height 7, standoff 0, extent 175.5,215 200,235
3D body: height 25, standoff 0, extent 167.5,215 175.5,235
3D body: height 25, standoff 18, extent 142.5,215 167.5,235
3D body: height 7, standoff 0, extent 175.5,265 200,285
3D body: height 25, standoff 0, extent 167.5,265 175.5,285
3D body: height 25, standoff 18, extent 142.5,265 167.5,285
3D body: height 25, standoff 18, extent 142.5,315 167.5,335
3D body: height 25, standoff 0, extent 167.5,315 175.5,335
3D body: height 7, standoff 0, extent 175.5,315 200,335
3D body: height 61, standoff 0, extent -113,294 -87,320
3D body: height 60, standoff 5, extent -145,-350 145,350